# Altium schematic symbol library Marks-Logos.SchLib: 5 symbols
Pins are listed as number, name and electrical type; pins without a type are passive.

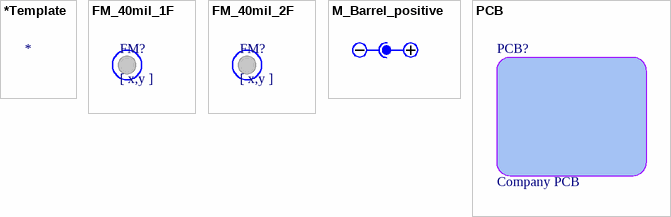
[diagram p0: symbols *Template to PCB]

## *Template
designator *
Reel Stock: N/A

## FM_40mil_1F
designator FM?, comment [ x,y ]  (no BOM)
Fiducial Mark 40 Mil 1 Face; Last modified by: J.Jaramillo; Last modified date: 20240310
footprint FM_40mil_1F

## FM_40mil_2F
designator FM?, comment [ x,y ]  (no BOM)
Fiducial Mark 40 Mil 2 Face; Last modified by: J.Jaramillo; Last modified date: 20240310
footprint FM_40mil_2F

## M_Barrel_positive
designator M?, comment Positive Polarity  (value not drawn)  (no BOM)
Mark for barrel positive polarity; Reel Stock: N/A; Last modified by: J.Jaramillo; Last modified date: 20240310
footprint M_Barrel_positive (M_Barrel_positive/20191003/N-A.Potosi)

## PCB
designator PCB?, comment Company PCB  (mechanical)
?; Manufacturer: =GlobalFactory; Manufacturer Part Number: =GlobalProjectName+'_GRB'+GlobalTPN+'_'+GlobalBoardName+'_'+GlobalVersion+'.'+GlobalRevision; Reel Stock: N/A; Last modified by: J.Jaramillo; Last modified date: 20240310; Supplier Part Number 1: =GlobalProjectName+'_GRB'+GlobalTPN+'_'+GlobalBoardName+'_'+GlobalVersion+'.'+GlobalRevision; Supplier 1: =GlobalFactory